# EAGLE library part C8051F330* (library silabs)
8kB ILP Flash MCU Family Source: www.silabs.com .. C8051F33x.pdf
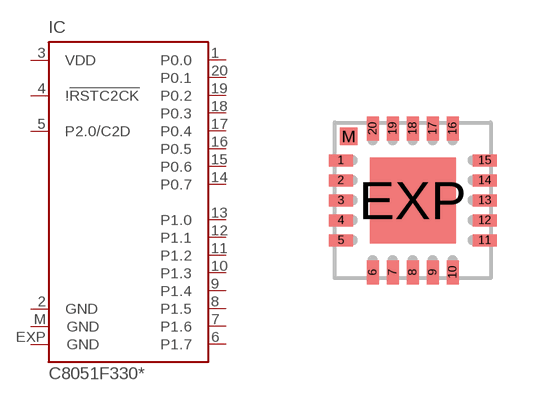
[diagram p3: symbol with the pads of MLP20; footprint MLP20]

Designator prefix IC

## C8051F330/1 (MPN: C8051F330-GM; OC_FARNELL: 1291513; OC_NEWARK: 24M1242)  [MLP20]
1  P0.0
2  GND  pwr
3  VDD  pwr
4  !!RSTC2CK  in
5  P2.0/C2D
6  P1.7
7  P1.6
8  P1.5
9  P1.4
10  P1.3
11  P1.2
12  P1.1
13  P1.0
14  P0.7
15  P0.6
16  P0.5
17  P0.4
18  P0.3
19  P0.2
20  P0.1
EXP  GND  pwr
M  GND  pwr

## Footprint MLP20 (pad centres in mm)
MLP 20 Source: www.silabs.com .. C8051F33x.pdf
smd 0.6 x 0.3: 1 -1.8,1; 2 -1.8,0.5; 3 -1.8,0; 4 -1.8,-0.5; 5 -1.8,-1; 11 1.8,-1; 12 1.8,-0.5; 13 1.8,0; 14 1.8,0.5; 15 1.8,1
smd 0.3 x 0.6: 6 -1,-1.8; 7 -0.5,-1.8; 8 0,-1.8; 9 0.5,-1.8; 10 1,-1.8; 16 1,1.8; 17 0.5,1.8; 18 0,1.8; 19 -0.5,1.8; 20 -1,1.8
smd 2.15 x 2.15: EXP 0,0
smd 0.435 x 0.435: M -1.6,1.6